# Altium schematic symbol library X2_100nF_P10mm_Suppression_Capacitor.SchLib: 1 symbol
Pins are listed as number, name and electrical type; pins without a type are passive.

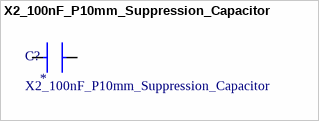
[diagram p0: symbol X2_100nF_P10mm_Suppression_Capacitor]

## X2_100nF_P10mm_Suppression_Capacitor
designator C?
LCSC: *
footprint X2_100nF_P10mm_Suppression_Capacitor
pins: 1, 2